# Altium schematic symbol library lmr64010xmfnopb.SchLib: 1 symbol
Pins are listed as number, name and electrical type; pins without a type are passive.

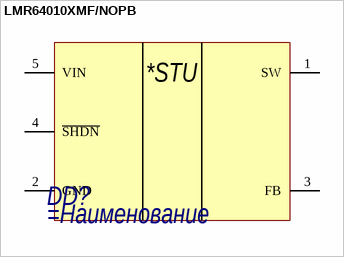
[diagram p0: symbol LMR64010XMF/NOPB]

## LMR64010XMF/NOPB
designator DD?
=Описание
footprint SOT23-5 (SOT23, 5-Leads, Body 2,90x2,80mm, Pitch 0,95mm, IPC Medium Density)
pins: 1 SW, 2 GND, 3 FB, 4 ~{SHDN}, 5 VIN
text: *STU